# Altium footprint library NRF24L01_PA.PcbLib: 9 footprints
Each footprint in its own frame and in the unit in brackets; x right, y up, seen from the top. Pads: shape width x height; smd on the part's side, far side on the other; paste and mask are expansions set on the pad; w line width, h text height; cw(c..) or ccw(c..) is an arc to the next point about the centre after c.
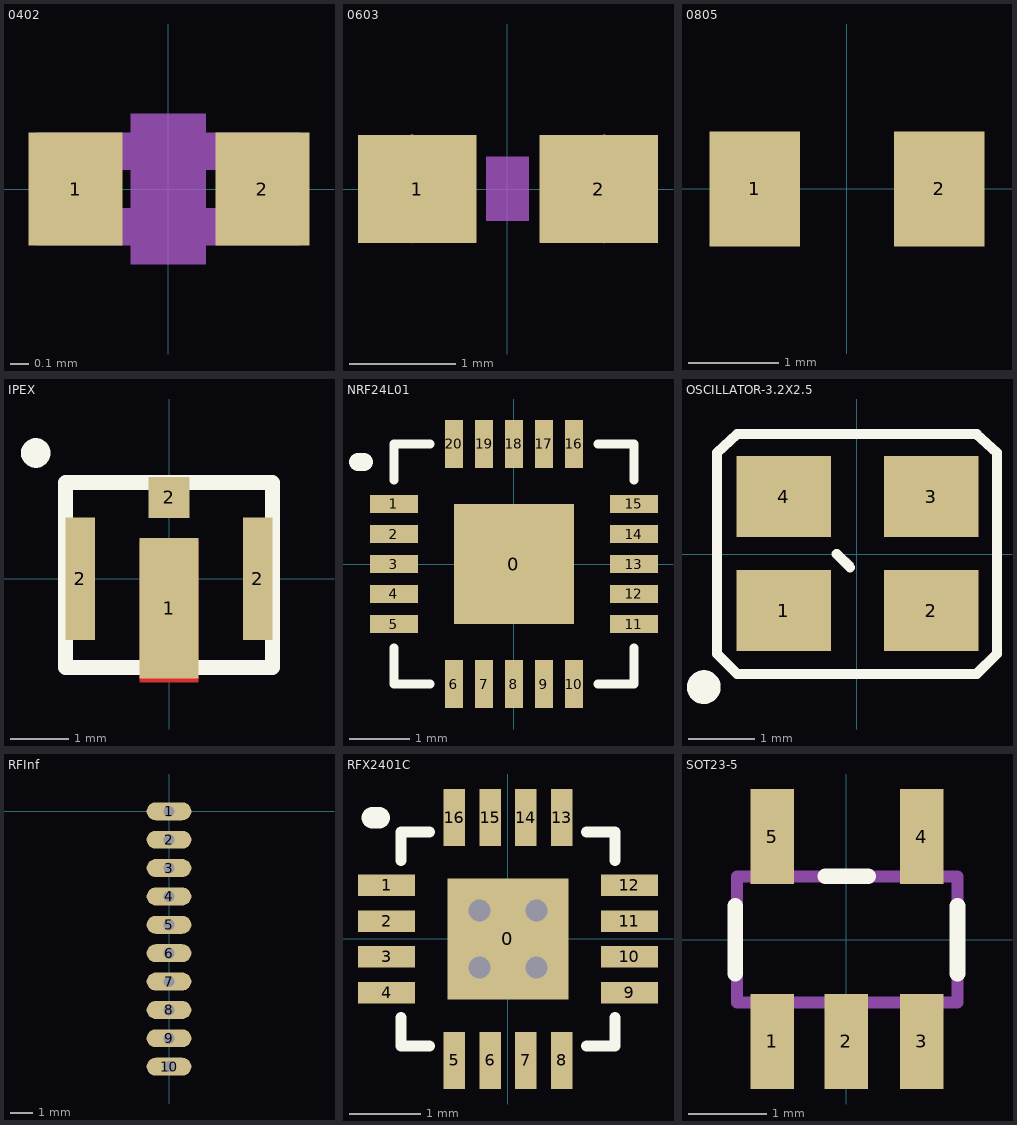
[diagram p0: the footprints below, top view; thin cyan lines are the x and y axes]

## 0402 [mil] "0402-RES"
pads (2):
  rect 20x24 smd: 1(-19.68,0) 2(20,0)
Mechanical 6:
  rectangle: -8,-16 8,16
Mechanical 16:
  rectangle: -28,-12 -16,12
  rectangle: 16,-12 28,12
  lines w8: -20,-8 20,-8 ; -20,8 20,8

## 0603 [mil] "0603-RES"
pads (2):
  rect 44x40 smd: 1(-33.46,0) 2(34,0)
Mechanical 6:
  rectangle: -7.87,-11.81 8,12
Mechanical 16:
  rectangle: 13,-18.5 33,19
  rectangle: -32.98,-18.49 -13.29,19.01
  lines w1: -35.43,-19.69 -35.43,20 ; 36,-19.69 36,20

## 0805 [mm]
pads (2):
  rect 1x1.27 smd: 1(-1.016,0) 2(1.016,0)
3D body: height 0.8, standoff 0, extent -1.27,-0.762 1.27,0.762

## IPEX [mm]
pads (4):
  rect 1.016x2.413 smd: 1(0,-0.508)
  rect 0.5x2.1 smd: 2(-1.524,0) 2(1.524,0)
  rect 0.7x0.7 smd: 2(0,1.397)
Top Layer:
  rectangle: -0.508,-1.778 0.508,0.635
Top Overlay:
  circle w0.254: c-2.286,2.159 r0.127
  lines w0.254: -1.778,-1.524 -0.635,-1.524 0.635,-1.524 1.778,-1.524 1.778,1.651 -1.778,1.651 -1.778,-1.524

## NRF24L01 [mm]
pads (21):
  rect 2x2 smd: 0(0,0)
  rect 0.8x0.3 smd: 1(-2,1) 2(-2,0.5) 3(-2,0) 4(-2,-0.5) 5(-2,-1) 11(2,-1) 12(2,-0.5) 13(2,0) 14(2,0.5) 15(2,1)
  rect 0.3x0.8 smd: 6(-1,-2) 7(-0.5,-2) 8(0,-2) 9(0.5,-2) 10(1,-2) 16(1,2) 17(0.5,2) 18(0,2) 19(-0.5,2) 20(-1,2)
Top Overlay:
  lines w0.152: -2,-1.4 -2,-2 -1.4,-2 ; -2,1.4 -2,2 -1.4,2 ; 1.4,-2 2,-2 2,-1.4 ; 1.4,2 2,2 2,1.4
  lines w0.3: -2.6,1.7 -2.5,1.7

## OSCILLATOR-3.2X2.5 [mil] "OSCILLATOR-3.2X2.5"
pads (4):
  rect 56x48 smd: 1(-43.31,-33.46) 2(44,-33.46) 3(44,34) 4(-43.31,34)
Top Overlay:
  circle w12: c-90.55,-78.74 r4
  lines w6: -11.81,0 -3.94,-7.87 ; -82.68,-59.06 -82.68,60 -70.87,71 71,71 83,60 83,-59.06 71,-70.87 -70.87,-70.87 -82.68,-59.06
Mechanical 16:
  lines w1: -82.68,-59.06 -82.68,60 -70.87,71 71,71 83,60 83,-59.06 71,-70.87 -70.87,-70.87 -82.68,-59.06

## RFInf [mm]
pads (10):
  oval 2x0.8 hole 0.5: 1(0,0) 2(0,-1.27) 3(0,-2.54) 4(0,-3.81) 5(0,-5.08) 6(0,-6.35) 7(0,-7.62) 8(0,-8.89) 9(0,-10.16) 10(0,-11.43)

## RFX2401C [mm]
pads (17):
  rect 1.7x1.7 smd: 0(0,0)
  rect 0.8x0.3 smd: 1(-1.7,0.75) 2(-1.7,0.25) 3(-1.7,-0.25) 4(-1.7,-0.75) 9(1.7,-0.75) 10(1.7,-0.25) 11(1.7,0.25) 12(1.7,0.75)
  rect 0.3x0.8 smd: 5(-0.75,-1.7) 6(-0.25,-1.7) 7(0.25,-1.7) 8(0.75,-1.7) 13(0.75,1.7) 14(0.25,1.7) 15(-0.25,1.7) 16(-0.75,1.7)
via 0.4,0.4 diameter 0.508 hole 0.305
via 0.4,-0.4 diameter 0.508 hole 0.305
via -0.4,-0.4 diameter 0.508 hole 0.305
via -0.4,0.4 diameter 0.508 hole 0.305
Top Overlay:
  lines w0.152: -1.5,-1.1 -1.5,-1.5 -1.1,-1.5 ; -1.5,1.1 -1.5,1.5 -1.1,1.5 ; 1.1,-1.5 1.5,-1.5 1.5,-1.1 ; 1.1,1.5 1.5,1.5 1.5,1.1
  lines w0.3: -1.9,1.7 -1.8,1.7

## SOT23-5 [mil] "SOT23-5"
pads (5):
  rect 22x48 smd: 1(-37.4,-51.19) 2(0,-51.19) 3(38,-51.19) 4(38,52) 5(-37.4,52)
Top Overlay:
  lines w8: -56,-16.91 -56,17 ; -10.57,32 11,32 ; 56,-16.91 56,17
Mechanical 16:
  rectangle: -47.25,34 -27.56,60
  rectangle: 28,34 48,60
  rectangle: 28,-59.06 48,-33.46
  rectangle: -9.84,-59.06 10,-33.47
  rectangle: -47.24,-59.06 -27.56,-33.47
  lines w1: -55.12,-31.5 -55.12,32 56,32 56,-31.5 -55.12,-31.5
  lines w6: -55.12,-31.5 -55.12,32 56,32 56,-31.5 -55.12,-31.5